# Altium schematic symbol library kmilo17pet-dsPIC33F.SchLib: 775 symbols (part 40 of 44)
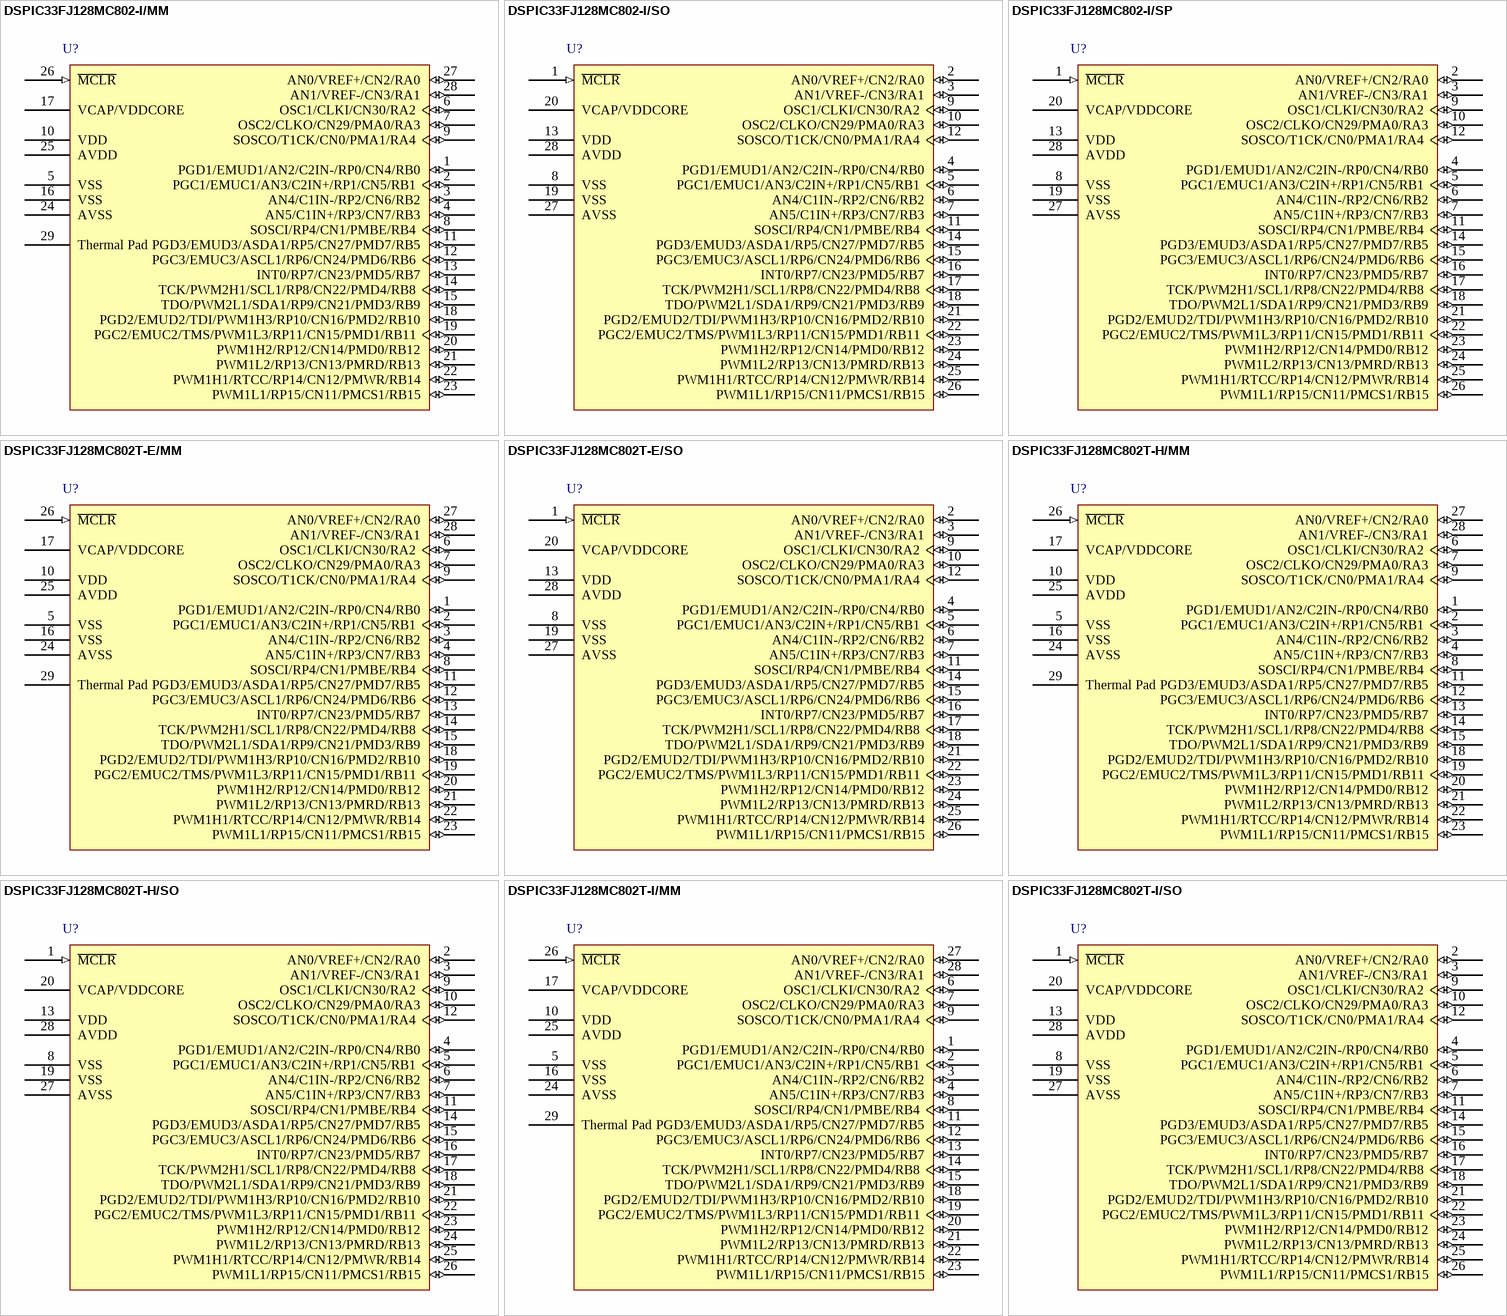
[diagram p197: symbols DSPIC33FJ128MC802-I/MM to DSPIC33FJ128MC802T-I/SO]

## DSPIC33FJ128MC802T-I/SO
designator U?
High-Performance 16-bit Digital Signal Controller, 128 KB Flash, 16 KB RAM, 28-Pin SOIC, Industrial Temperature, Tape and Reel; Manufacturer: Microchip; PartNumber: DSPIC33FJ128MC802T-I/SO; DatasheetVersion: revD, Nov-2009; PackageVersion: revBB, Aug-2009; PackageReference: SOIC-SO28; PackageDescription: 28-Lead Plastic Small Outline (SO) - Wide 7.50mm Body [SOIC]; Supplier 1: Digi-Key; Supplier Part Number 1: DSPIC33FJ128MC802T-I/SOTR-ND; Supplier 2: Mouser; Supplier Part Number 2: 579-DSPIC28MC802TISO; Mounting Technology: Surface Mount; Code_JEDEC: MS-013; ComponentLink1Description: Manufacturer URL; ComponentLink1URL: http://www.microchip.com/; ComponentLink2Description: Datasheet; ComponentLink2URL: http://ww1.microchip.com/downloads/en/DeviceDoc/70291D.pdf; ComponentLink3Description: Package Specification; ComponentLink3URL: http://www.microchip.com/stellent/groups/techpub_sg/documents/packagingspec/en012702.pdf
footprint SOIC-SO28_N (SOIC, 28-Leads, Body 17.9x7.5mm, Pitch 1.27mm, IPC Medium Density)
footprint SOIC-SO28_L (SOIC, 28-Leads, Body 17.9x7.5mm, Pitch 1.27mm, IPC High Density)
footprint SOIC-SO28_M (SOIC, 28-Leads, Body 17.9x7.5mm, Pitch 1.27mm, IPC Low Density)
pins: 1 ~{MCLR} (in), 2 AN0/VREF+/CN2/RA0 (io), 3 AN1/VREF-/CN3/RA1 (io), 4 PGD1/EMUD1/AN2/C2IN-/RP0/CN4/RB0 (io), 5 PGC1/EMUC1/AN3/C2IN+/RP1/CN5/RB1 (io), 6 AN4/C1IN-/RP2/CN6/RB2 (io), 7 AN5/C1IN+/RP3/CN7/RB3 (io), 8 VSS (power), 9 OSC1/CLKI/CN30/RA2 (io), 10 OSC2/CLKO/CN29/PMA0/RA3 (io), 11 SOSCI/RP4/CN1/PMBE/RB4 (io), 12 SOSCO/T1CK/CN0/PMA1/RA4 (io), 13 VDD (power), 14 PGD3/EMUD3/ASDA1/RP5/CN27/PMD7/RB5 (io), 15 PGC3/EMUC3/ASCL1/RP6/CN24/PMD6/RB6 (io), 16 INT0/RP7/CN23/PMD5/RB7 (io), 17 TCK/PWM2H1/SCL1/RP8/CN22/PMD4/RB8 (io), 18 TDO/PWM2L1/SDA1/RP9/CN21/PMD3/RB9 (io), 19 VSS (power), 20 VCAP/VDDCORE (power), 21 PGD2/EMUD2/TDI/PWM1H3/RP10/CN16/PMD2/RB10 (io), 22 PGC2/EMUC2/TMS/PWM1L3/RP11/CN15/PMD1/RB11 (io), 23 PWM1H2/RP12/CN14/PMD0/RB12 (io), 24 PWM1L2/RP13/CN13/PMRD/RB13 (io), 25 PWM1H1/RTCC/RP14/CN12/PMWR/RB14 (io), 26 PWM1L1/RP15/CN11/PMCS1/RB15 (io), 27 AVSS (power), 28 AVDD (power)

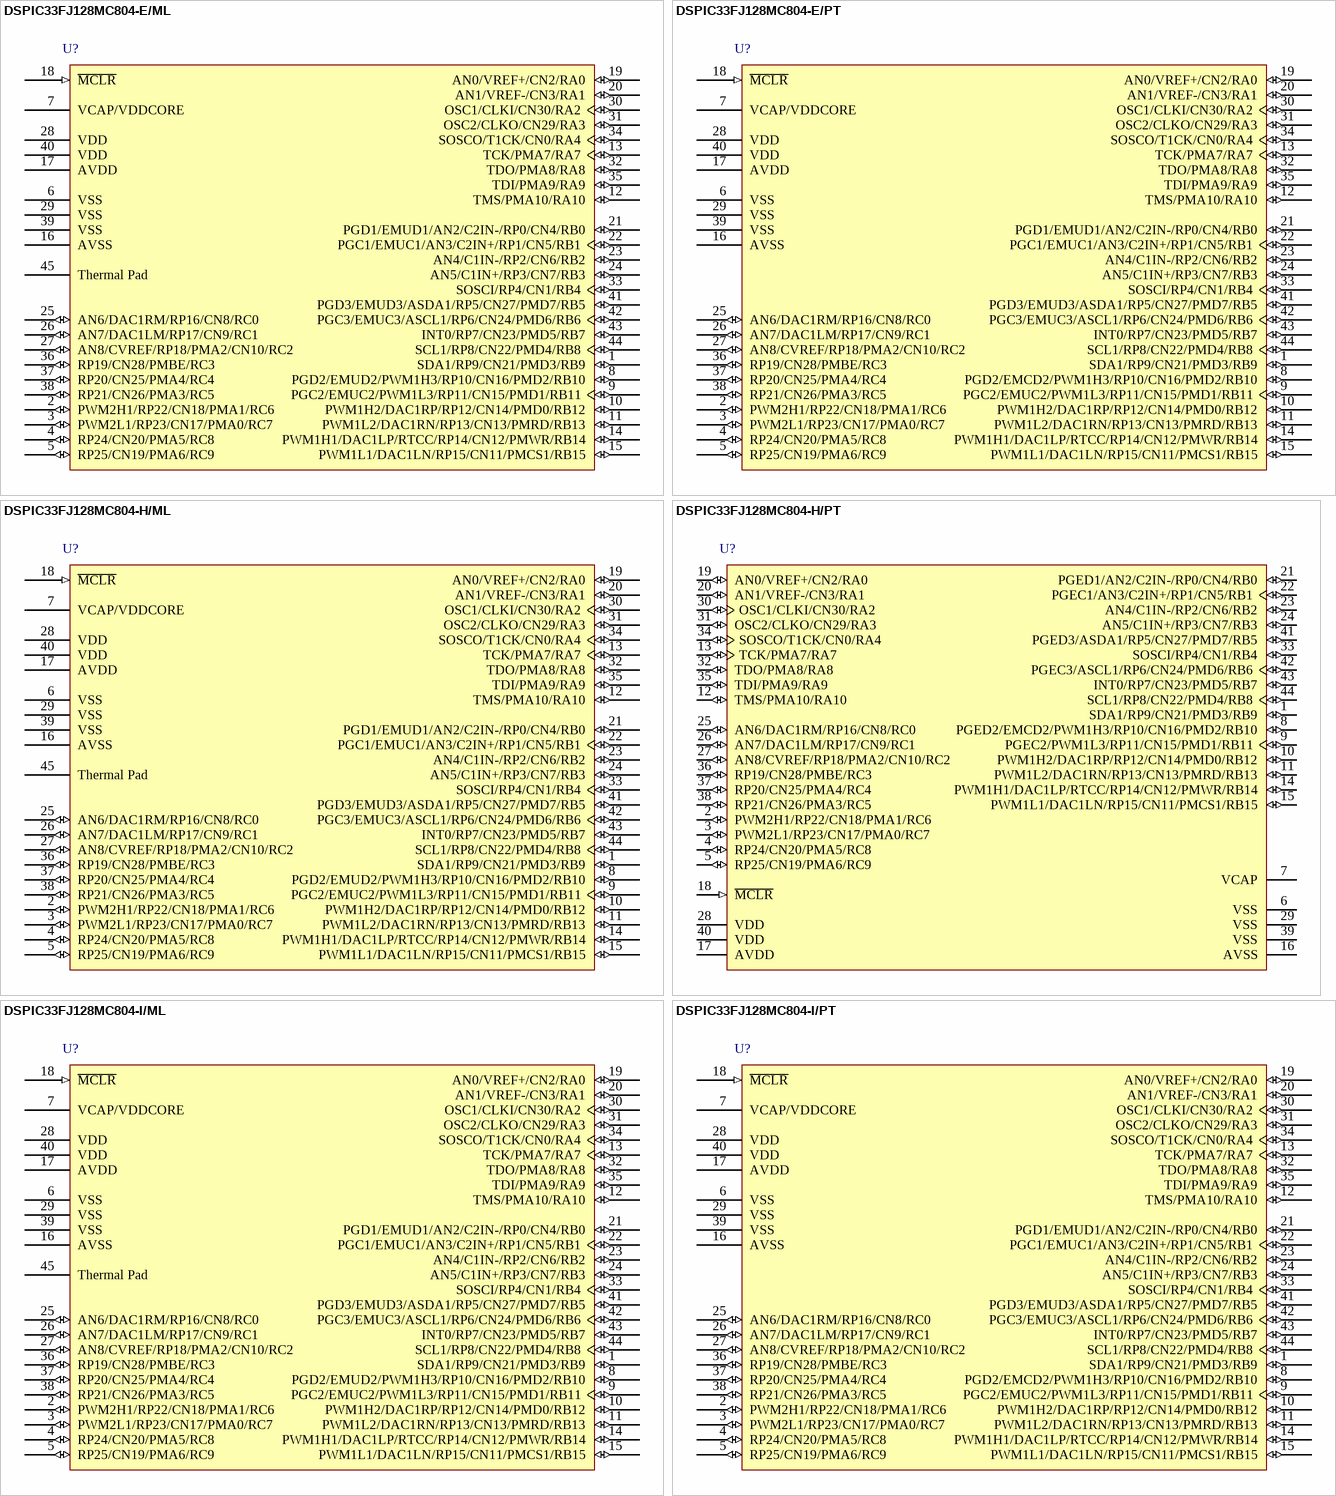
[diagram p141: symbols DSPIC33FJ128MC804-E/ML to DSPIC33FJ128MC804-I/PT]

## DSPIC33FJ128MC804-E/ML
designator U?
High-Performance 16-bit Digital Signal Controller, 128 KB Flash, 16 KB RAM, 44-Pin QFN, Extended High Temperature; Manufacturer: Microchip; PartNumber: DSPIC33FJ128MC804-E/ML; DatasheetVersion: revD, Nov-2009; PackageVersion: revBB, Aug-2009; PackageReference: QFN-ML44; PackageDescription: 44-Lead Plastic Quad Flat, No Lead Package (ML) - 8x8 mm Body [QFN]; Supplier 1: Digi-Key; Supplier Part Number 1: DSPIC33FJ128MC804-E/ML-ND; Supplier 2: Newark; Supplier Part Number 2: 39M8143; Supplier 3: Mouser; Supplier Part Number 3: 579-DSPIC128MC804EML; Mounting Technology: Surface Mount; Code_JEDEC: MO-220; Code_IPC: QFN65P800X800-44V2; ComponentLink1Description: Manufacturer URL; ComponentLink1URL: http://www.microchip.com/; ComponentLink2Description: Datasheet; ComponentLink2URL: http://ww1.microchip.com/downloads/en/DeviceDoc/70291D.pdf; ComponentLink3Description: Package Specification; ComponentLink3URL: http://www.microchip.com/stellent/groups/techpub_sg/documents/packagingspec/en012702.pdf
footprint QFN-ML44_N (QFN, 44-Leads, Body 8x8mm, Pitch 0.65mm, Thermal Pad 6.8x6.8mm, IPC Medium Density)
footprint QFN-ML44_L (QFN, 44-Leads, Body 8x8mm, Pitch 0.65mm, Thermal Pad 6.8x6.8mm, IPC High Density)
footprint QFN-ML44_M (QFN, 44-Leads, Body 8x8mm, Pitch 0.65mm, Thermal Pad 6.8x6.8mm, IPC Low Density)
pins: 1 SDA1/RP9/CN21/PMD3/RB9 (io), 2 PWM2H1/RP22/CN18/PMA1/RC6 (io), 3 PWM2L1/RP23/CN17/PMA0/RC7 (io), 4 RP24/CN20/PMA5/RC8 (io), 5 RP25/CN19/PMA6/RC9 (io), 6 VSS (power), 7 VCAP/VDDCORE (power), 8 PGD2/EMUD2/PWM1H3/RP10/CN16/PMD2/RB10 (io), 9 PGC2/EMUC2/PWM1L3/RP11/CN15/PMD1/RB11 (io), 10 PWM1H2/DAC1RP/RP12/CN14/PMD0/RB12 (io), 11 PWM1L2/DAC1RN/RP13/CN13/PMRD/RB13 (io), 12 TMS/PMA10/RA10 (io), 13 TCK/PMA7/RA7 (io), 14 PWM1H1/DAC1LP/RTCC/RP14/CN12/PMWR/RB14 (io), 15 PWM1L1/DAC1LN/RP15/CN11/PMCS1/RB15 (io), 16 AVSS (power), 17 AVDD (power), 18 ~{MCLR} (in), 19 AN0/VREF+/CN2/RA0 (io), 20 AN1/VREF-/CN3/RA1 (io), 21 PGD1/EMUD1/AN2/C2IN-/RP0/CN4/RB0 (io), 22 PGC1/EMUC1/AN3/C2IN+/RP1/CN5/RB1 (io), 23 AN4/C1IN-/RP2/CN6/RB2 (io), 24 AN5/C1IN+/RP3/CN7/RB3 (io), 25 AN6/DAC1RM/RP16/CN8/RC0 (io), 26 AN7/DAC1LM/RP17/CN9/RC1 (io), 27 AN8/CVREF/RP18/PMA2/CN10/RC2 (io), 28 VDD (power), 29 VSS (power), 30 OSC1/CLKI/CN30/RA2 (io), 31 OSC2/CLKO/CN29/RA3 (io), 32 TDO/PMA8/RA8 (io), 33 SOSCI/RP4/CN1/RB4 (io), 34 SOSCO/T1CK/CN0/RA4 (io), 35 TDI/PMA9/RA9 (io), 36 RP19/CN28/PMBE/RC3 (io), 37 RP20/CN25/PMA4/RC4 (io), 38 RP21/CN26/PMA3/RC5 (io), 39 VSS (power), 40 VDD (power), 41 PGD3/EMUD3/ASDA1/RP5/CN27/PMD7/RB5 (io), 42 PGC3/EMUC3/ASCL1/RP6/CN24/PMD6/RB6 (io), 43 INT0/RP7/CN23/PMD5/RB7 (io), 44 SCL1/RP8/CN22/PMD4/RB8 (io), 45 Thermal Pad

## DSPIC33FJ128MC804-E/PT
designator U?
High-Performance 16-bit Digital Signal Controller, 128 KB Flash, 16 KB RAM, 44-Pin TQFP, Extended High Temperature; Manufacturer: Microchip; PartNumber: DSPIC33FJ128MC804-E/PT; DatasheetVersion: revD, Nov-2009; PackageVersion: revBB, Aug-2009; PackageReference: TQFP-PT44; PackageDescription: 44-Lead Plastic Thin Quad Flatpack (PT) - 10x10x1mm Body, 2.00mm [TQFP]; Supplier 1: Digi-Key; Supplier Part Number 1: DSPIC33FJ128MC804-E/PT-ND; Supplier 2: Newark; Supplier Part Number 2: 39M8144; Supplier 3: Mouser; Supplier Part Number 3: 579-DSPIC128MC804EPT; Mounting Technology: Surface Mount; Code_JEDEC: MS-026; ComponentLink1Description: Manufacturer URL; ComponentLink1URL: http://www.microchip.com/; ComponentLink2Description: Datasheet; ComponentLink2URL: http://ww1.microchip.com/downloads/en/DeviceDoc/70291D.pdf; ComponentLink3Description: Package Specification; ComponentLink3URL: http://www.microchip.com/stellent/groups/techpub_sg/documents/packagingspec/en012702.pdf
footprint TQFP-PT44_N (Thin QFP, 44-Leads, Body 10x10mm, Pitch 0.8mm, IPC Medium Density)
footprint TQFP-PT44_L (Thin QFP, 44-Leads, Body 10x10mm, Pitch 0.8mm, IPC High Density)
footprint TQFP-PT44_M (Thin QFP, 44-Leads, Body 10x10mm, Pitch 0.8mm, IPC Low Density)
pins: 1 SDA1/RP9/CN21/PMD3/RB9 (io), 2 PWM2H1/RP22/CN18/PMA1/RC6 (io), 3 PWM2L1/RP23/CN17/PMA0/RC7 (io), 4 RP24/CN20/PMA5/RC8 (io), 5 RP25/CN19/PMA6/RC9 (io), 6 VSS (power), 7 VCAP/VDDCORE (power), 8 PGD2/EMCD2/PWM1H3/RP10/CN16/PMD2/RB10 (io), 9 PGC2/EMUC2/PWM1L3/RP11/CN15/PMD1/RB11 (io), 10 PWM1H2/DAC1RP/RP12/CN14/PMD0/RB12 (io), 11 PWM1L2/DAC1RN/RP13/CN13/PMRD/RB13 (io), 12 TMS/PMA10/RA10 (io), 13 TCK/PMA7/RA7 (io), 14 PWM1H1/DAC1LP/RTCC/RP14/CN12/PMWR/RB14 (io), 15 PWM1L1/DAC1LN/RP15/CN11/PMCS1/RB15 (io), 16 AVSS (power), 17 AVDD (power), 18 ~{MCLR} (in), 19 AN0/VREF+/CN2/RA0 (io), 20 AN1/VREF-/CN3/RA1 (io), 21 PGD1/EMUD1/AN2/C2IN-/RP0/CN4/RB0 (io), 22 PGC1/EMUC1/AN3/C2IN+/RP1/CN5/RB1 (io), 23 AN4/C1IN-/RP2/CN6/RB2 (io), 24 AN5/C1IN+/RP3/CN7/RB3 (io), 25 AN6/DAC1RM/RP16/CN8/RC0 (io), 26 AN7/DAC1LM/RP17/CN9/RC1 (io), 27 AN8/CVREF/RP18/PMA2/CN10/RC2 (io), 28 VDD (power), 29 VSS (power), 30 OSC1/CLKI/CN30/RA2 (io), 31 OSC2/CLKO/CN29/RA3 (io), 32 TDO/PMA8/RA8 (io), 33 SOSCI/RP4/CN1/RB4 (io), 34 SOSCO/T1CK/CN0/RA4 (io), 35 TDI/PMA9/RA9 (io), 36 RP19/CN28/PMBE/RC3 (io), 37 RP20/CN25/PMA4/RC4 (io), 38 RP21/CN26/PMA3/RC5 (io), 39 VSS (power), 40 VDD (power), 41 PGD3/EMUD3/ASDA1/RP5/CN27/PMD7/RB5 (io), 42 PGC3/EMUC3/ASCL1/RP6/CN24/PMD6/RB6 (io), 43 INT0/RP7/CN23/PMD5/RB7 (io), 44 SCL1/RP8/CN22/PMD4/RB8 (io)

## DSPIC33FJ128MC804-H/ML
designator U?
High-Performance 16-bit Digital Signal Controller, 128 KB Flash, 16 KB RAM, 44-Pin QFN, High Temperature; Manufacturer: Microchip; PartNumber: DSPIC33FJ128MC804-H/ML; DatasheetVersion: revD, Nov-2009; PackageVersion: revBB, Aug-2009; PackageReference: QFN-ML44; PackageDescription: 44-Lead Plastic Quad Flat, No Lead Package (ML) - 8x8 mm Body [QFN]; Supplier 1: Digi-Key; Supplier Part Number 1: DSPIC33FJ128MC804-H/ML-ND; Supplier 2: Mouser; Supplier Part Number 2: 579-33FJ128MC804-HML; Mounting Technology: Surface Mount; Code_JEDEC: MO-220; Code_IPC: QFN65P800X800-44V2; ComponentLink1Description: Manufacturer URL; ComponentLink1URL: http://www.microchip.com/; ComponentLink2Description: Datasheet; ComponentLink2URL: http://ww1.microchip.com/downloads/en/DeviceDoc/70291D.pdf; ComponentLink3Description: Package Specification; ComponentLink3URL: http://www.microchip.com/stellent/groups/techpub_sg/documents/packagingspec/en012702.pdf
footprint QFN-ML44_N (QFN, 44-Leads, Body 8x8mm, Pitch 0.65mm, Thermal Pad 6.8x6.8mm, IPC Medium Density)
footprint QFN-ML44_L (QFN, 44-Leads, Body 8x8mm, Pitch 0.65mm, Thermal Pad 6.8x6.8mm, IPC High Density)
footprint QFN-ML44_M (QFN, 44-Leads, Body 8x8mm, Pitch 0.65mm, Thermal Pad 6.8x6.8mm, IPC Low Density)
pins: 1 SDA1/RP9/CN21/PMD3/RB9 (io), 2 PWM2H1/RP22/CN18/PMA1/RC6 (io), 3 PWM2L1/RP23/CN17/PMA0/RC7 (io), 4 RP24/CN20/PMA5/RC8 (io), 5 RP25/CN19/PMA6/RC9 (io), 6 VSS (power), 7 VCAP/VDDCORE (power), 8 PGD2/EMUD2/PWM1H3/RP10/CN16/PMD2/RB10 (io), 9 PGC2/EMUC2/PWM1L3/RP11/CN15/PMD1/RB11 (io), 10 PWM1H2/DAC1RP/RP12/CN14/PMD0/RB12 (io), 11 PWM1L2/DAC1RN/RP13/CN13/PMRD/RB13 (io), 12 TMS/PMA10/RA10 (io), 13 TCK/PMA7/RA7 (io), 14 PWM1H1/DAC1LP/RTCC/RP14/CN12/PMWR/RB14 (io), 15 PWM1L1/DAC1LN/RP15/CN11/PMCS1/RB15 (io), 16 AVSS (power), 17 AVDD (power), 18 ~{MCLR} (in), 19 AN0/VREF+/CN2/RA0 (io), 20 AN1/VREF-/CN3/RA1 (io), 21 PGD1/EMUD1/AN2/C2IN-/RP0/CN4/RB0 (io), 22 PGC1/EMUC1/AN3/C2IN+/RP1/CN5/RB1 (io), 23 AN4/C1IN-/RP2/CN6/RB2 (io), 24 AN5/C1IN+/RP3/CN7/RB3 (io), 25 AN6/DAC1RM/RP16/CN8/RC0 (io), 26 AN7/DAC1LM/RP17/CN9/RC1 (io), 27 AN8/CVREF/RP18/PMA2/CN10/RC2 (io), 28 VDD (power), 29 VSS (power), 30 OSC1/CLKI/CN30/RA2 (io), 31 OSC2/CLKO/CN29/RA3 (io), 32 TDO/PMA8/RA8 (io), 33 SOSCI/RP4/CN1/RB4 (io), 34 SOSCO/T1CK/CN0/RA4 (io), 35 TDI/PMA9/RA9 (io), 36 RP19/CN28/PMBE/RC3 (io), 37 RP20/CN25/PMA4/RC4 (io), 38 RP21/CN26/PMA3/RC5 (io), 39 VSS (power), 40 VDD (power), 41 PGD3/EMUD3/ASDA1/RP5/CN27/PMD7/RB5 (io), 42 PGC3/EMUC3/ASCL1/RP6/CN24/PMD6/RB6 (io), 43 INT0/RP7/CN23/PMD5/RB7 (io), 44 SCL1/RP8/CN22/PMD4/RB8 (io), 45 Thermal Pad

## DSPIC33FJ128MC804-H/PT
designator U?
16-Bit Digital Signal Controller with Motor Control PWM and Advanced Analog, 40 MIPS, 35 I/O, PMP, -40 to >125 degC, 44-pin TQFP (PT44), Tray; Manufacturer: Microchip; PartNumber: DSPIC33FJ128MC804-H/PT; DatasheetVersion: Rev. G; PackageVersion: C04-076B; PackageReference: TQFP-PT44; PackageDescription: 44-Lead Plastic Thin Quad Flatpack, 10 x 10 mm Body, 0.8 mm Pitch; Supplier 1: Digi-Key; Supplier Part Number 1: DSPIC33FJ128MC804-H/PT-ND; Supplier 2: Newark; Supplier Part Number 2: 52R9703; Supplier 3: Mouser; Supplier Part Number 3: 579-33FJ128MC804-HPT; Mounting Technology: Surface Mount; ComponentLink1Description: Manufacturer URL; ComponentLink1URL: http://www.microchip.com; ComponentLink2Description: Datasheet; ComponentLink2URL: http://ww1.microchip.com/downloads/en/DeviceDoc/70291G.pdf; ComponentLink3Description: Package Specification; ComponentLink3URL: http://www.microchip.com/stellent/groups/techpub_sg/documents/packagingspec/en012702.pdf; ComponentLink4Description: Product URL; ComponentLink4URL: http://www.microchip.com/dsPIC33FJ128MC804
footprint MCHP-TQFP-PT44_N (QFN, 44-Leads, Body 10x10mm, Pitch 0.8mm, IPC Medium Density)
footprint MCHP-TQFP-PT44_L (QFN, 44-Leads, Body 10x10mm, Pitch 0.8mm, IPC High Density)
footprint MCHP-TQFP-PT44_M (QFN, 44-Leads, Body 10x10mm, Pitch 0.8mm, IPC Low Density)
pins: 1 SDA1/RP9/CN21/PMD3/RB9 (io), 2 PWM2H1/RP22/CN18/PMA1/RC6 (io), 3 PWM2L1/RP23/CN17/PMA0/RC7 (io), 4 RP24/CN20/PMA5/RC8 (io), 5 RP25/CN19/PMA6/RC9 (io), 6 VSS (power) "Ground reference for logic and I/O pins.", 7 VCAP "CPU logic filter capacitor connection.", 8 PGED2/EMCD2/PWM1H3/RP10/CN16/PMD2/RB10 (io), 9 PGEC2/PWM1L3/RP11/CN15/PMD1/RB11 (io), 10 PWM1H2/DAC1RP/RP12/CN14/PMD0/RB12 (io), 11 PWM1L2/DAC1RN/RP13/CN13/PMRD/RB13 (io), 12 TMS/PMA10/RA10 (io), 13 TCK/PMA7/RA7 (io), 14 PWM1H1/DAC1LP/RTCC/RP14/CN12/PMWR/RB14 (io), 15 PWM1L1/DAC1LN/RP15/CN11/PMCS1/RB15 (io), 16 AVSS (power) "Ground reference for analog modules.", 17 AVDD (power) "Positive supply for analog modules. This pin must be connected at all times.", 18 ~{MCLR} (in) "Master Clear (Reset) input. This pin is an active-low Reset to the device.", 19 AN0/VREF+/CN2/RA0 (io), 20 AN1/VREF-/CN3/RA1 (io), 21 PGED1/AN2/C2IN-/RP0/CN4/RB0 (io), 22 PGEC1/AN3/C2IN+/RP1/CN5/RB1 (io), 23 AN4/C1IN-/RP2/CN6/RB2 (io), 24 AN5/C1IN+/RP3/CN7/RB3 (io), 25 AN6/DAC1RM/RP16/CN8/RC0 (io), 26 AN7/DAC1LM/RP17/CN9/RC1 (io), 27 AN8/CVREF/RP18/PMA2/CN10/RC2 (io), 28 VDD (power) "Positive supply for peripheral logic and I/O pins.", 29 VSS (power) "Ground reference for logic and I/O pins.", 30 OSC1/CLKI/CN30/RA2 (io), 31 OSC2/CLKO/CN29/RA3 (io), 32 TDO/PMA8/RA8 (io), 33 SOSCI/RP4/CN1/RB4 (io), 34 SOSCO/T1CK/CN0/RA4 (io), 35 TDI/PMA9/RA9 (io), 36 RP19/CN28/PMBE/RC3 (io), 37 RP20/CN25/PMA4/RC4 (io), 38 RP21/CN26/PMA3/RC5 (io), 39 VSS (power) "Ground reference for logic and I/O pins.", 40 VDD (power) "Positive supply for peripheral logic and I/O pins.", 41 PGED3/ASDA1/RP5/CN27/PMD7/RB5 (io), 42 PGEC3/ASCL1/RP6/CN24/PMD6/RB6 (io), 43 INT0/RP7/CN23/PMD5/RB7 (io), 44 SCL1/RP8/CN22/PMD4/RB8 (io)

## DSPIC33FJ128MC804-I/ML
designator U?
High-Performance 16-bit Digital Signal Controller, 128 KB Flash, 16 KB RAM, 44-Pin QFN, Industrial Temperature; Manufacturer: Microchip; PartNumber: DSPIC33FJ128MC804-I/ML; DatasheetVersion: revD, Nov-2009; PackageVersion: revBB, Aug-2009; PackageReference: QFN-ML44; PackageDescription: 44-Lead Plastic Quad Flat, No Lead Package (ML) - 8x8 mm Body [QFN]; Supplier 1: Digi-Key; Supplier Part Number 1: DSPIC33FJ128MC804-I/ML-ND; Supplier 2: Farnell; Supplier Part Number 2: 1576809; Supplier 3: Newark; Supplier Part Number 3: 39M8145; Supplier 4: Mouser; Supplier Part Number 4: 579-DSPIC128MC804IML; Mounting Technology: Surface Mount; Code_JEDEC: MO-220; Code_IPC: QFN65P800X800-44V2; ComponentLink1Description: Manufacturer URL; ComponentLink1URL: http://www.microchip.com/; ComponentLink2Description: Datasheet; ComponentLink2URL: http://ww1.microchip.com/downloads/en/DeviceDoc/70291D.pdf; ComponentLink3Description: Package Specification; ComponentLink3URL: http://www.microchip.com/stellent/groups/techpub_sg/documents/packagingspec/en012702.pdf
footprint QFN-ML44_N (QFN, 44-Leads, Body 8x8mm, Pitch 0.65mm, Thermal Pad 6.8x6.8mm, IPC Medium Density)
footprint QFN-ML44_L (QFN, 44-Leads, Body 8x8mm, Pitch 0.65mm, Thermal Pad 6.8x6.8mm, IPC High Density)
footprint QFN-ML44_M (QFN, 44-Leads, Body 8x8mm, Pitch 0.65mm, Thermal Pad 6.8x6.8mm, IPC Low Density)
pins: 1 SDA1/RP9/CN21/PMD3/RB9 (io), 2 PWM2H1/RP22/CN18/PMA1/RC6 (io), 3 PWM2L1/RP23/CN17/PMA0/RC7 (io), 4 RP24/CN20/PMA5/RC8 (io), 5 RP25/CN19/PMA6/RC9 (io), 6 VSS (power), 7 VCAP/VDDCORE (power), 8 PGD2/EMUD2/PWM1H3/RP10/CN16/PMD2/RB10 (io), 9 PGC2/EMUC2/PWM1L3/RP11/CN15/PMD1/RB11 (io), 10 PWM1H2/DAC1RP/RP12/CN14/PMD0/RB12 (io), 11 PWM1L2/DAC1RN/RP13/CN13/PMRD/RB13 (io), 12 TMS/PMA10/RA10 (io), 13 TCK/PMA7/RA7 (io), 14 PWM1H1/DAC1LP/RTCC/RP14/CN12/PMWR/RB14 (io), 15 PWM1L1/DAC1LN/RP15/CN11/PMCS1/RB15 (io), 16 AVSS (power), 17 AVDD (power), 18 ~{MCLR} (in), 19 AN0/VREF+/CN2/RA0 (io), 20 AN1/VREF-/CN3/RA1 (io), 21 PGD1/EMUD1/AN2/C2IN-/RP0/CN4/RB0 (io), 22 PGC1/EMUC1/AN3/C2IN+/RP1/CN5/RB1 (io), 23 AN4/C1IN-/RP2/CN6/RB2 (io), 24 AN5/C1IN+/RP3/CN7/RB3 (io), 25 AN6/DAC1RM/RP16/CN8/RC0 (io), 26 AN7/DAC1LM/RP17/CN9/RC1 (io), 27 AN8/CVREF/RP18/PMA2/CN10/RC2 (io), 28 VDD (power), 29 VSS (power), 30 OSC1/CLKI/CN30/RA2 (io), 31 OSC2/CLKO/CN29/RA3 (io), 32 TDO/PMA8/RA8 (io), 33 SOSCI/RP4/CN1/RB4 (io), 34 SOSCO/T1CK/CN0/RA4 (io), 35 TDI/PMA9/RA9 (io), 36 RP19/CN28/PMBE/RC3 (io), 37 RP20/CN25/PMA4/RC4 (io), 38 RP21/CN26/PMA3/RC5 (io), 39 VSS (power), 40 VDD (power), 41 PGD3/EMUD3/ASDA1/RP5/CN27/PMD7/RB5 (io), 42 PGC3/EMUC3/ASCL1/RP6/CN24/PMD6/RB6 (io), 43 INT0/RP7/CN23/PMD5/RB7 (io), 44 SCL1/RP8/CN22/PMD4/RB8 (io), 45 Thermal Pad

## DSPIC33FJ128MC804-I/PT
designator U?
High-Performance 16-bit Digital Signal Controller, 128 KB Flash, 16 KB RAM, 44-Pin TQFP, Industrial Temperature; Manufacturer: Microchip; PartNumber: DSPIC33FJ128MC804-I/PT; DatasheetVersion: revD, Nov-2009; PackageVersion: revBB, Aug-2009; PackageReference: TQFP-PT44; PackageDescription: 44-Lead Plastic Thin Quad Flatpack (PT) - 10x10x1mm Body, 2.00mm [TQFP]; Supplier 1: Digi-Key; Supplier Part Number 1: DSPIC33FJ128MC804-I/PT-ND; Supplier 2: Farnell; Supplier Part Number 2: 1576810MPKG; Supplier 3: Farnell; Supplier Part Number 3: 1576810; Supplier 4: Newark; Supplier Part Number 4: 39M8146; Supplier 5: Mouser; Supplier Part Number 5: 579-DSPIC128MC804IPT; Mounting Technology: Surface Mount; Code_JEDEC: MS-026; ComponentLink1Description: Manufacturer URL; ComponentLink1URL: http://www.microchip.com/; ComponentLink2Description: Datasheet; ComponentLink2URL: http://ww1.microchip.com/downloads/en/DeviceDoc/70291D.pdf; ComponentLink3Description: Package Specification; ComponentLink3URL: http://www.microchip.com/stellent/groups/techpub_sg/documents/packagingspec/en012702.pdf
footprint TQFP-PT44_N (Thin QFP, 44-Leads, Body 10x10mm, Pitch 0.8mm, IPC Medium Density)
footprint TQFP-PT44_L (Thin QFP, 44-Leads, Body 10x10mm, Pitch 0.8mm, IPC High Density)
footprint TQFP-PT44_M (Thin QFP, 44-Leads, Body 10x10mm, Pitch 0.8mm, IPC Low Density)
pins: 1 SDA1/RP9/CN21/PMD3/RB9 (io), 2 PWM2H1/RP22/CN18/PMA1/RC6 (io), 3 PWM2L1/RP23/CN17/PMA0/RC7 (io), 4 RP24/CN20/PMA5/RC8 (io), 5 RP25/CN19/PMA6/RC9 (io), 6 VSS (power), 7 VCAP/VDDCORE (power), 8 PGD2/EMCD2/PWM1H3/RP10/CN16/PMD2/RB10 (io), 9 PGC2/EMUC2/PWM1L3/RP11/CN15/PMD1/RB11 (io), 10 PWM1H2/DAC1RP/RP12/CN14/PMD0/RB12 (io), 11 PWM1L2/DAC1RN/RP13/CN13/PMRD/RB13 (io), 12 TMS/PMA10/RA10 (io), 13 TCK/PMA7/RA7 (io), 14 PWM1H1/DAC1LP/RTCC/RP14/CN12/PMWR/RB14 (io), 15 PWM1L1/DAC1LN/RP15/CN11/PMCS1/RB15 (io), 16 AVSS (power), 17 AVDD (power), 18 ~{MCLR} (in), 19 AN0/VREF+/CN2/RA0 (io), 20 AN1/VREF-/CN3/RA1 (io), 21 PGD1/EMUD1/AN2/C2IN-/RP0/CN4/RB0 (io), 22 PGC1/EMUC1/AN3/C2IN+/RP1/CN5/RB1 (io), 23 AN4/C1IN-/RP2/CN6/RB2 (io), 24 AN5/C1IN+/RP3/CN7/RB3 (io), 25 AN6/DAC1RM/RP16/CN8/RC0 (io), 26 AN7/DAC1LM/RP17/CN9/RC1 (io), 27 AN8/CVREF/RP18/PMA2/CN10/RC2 (io), 28 VDD (power), 29 VSS (power), 30 OSC1/CLKI/CN30/RA2 (io), 31 OSC2/CLKO/CN29/RA3 (io), 32 TDO/PMA8/RA8 (io), 33 SOSCI/RP4/CN1/RB4 (io), 34 SOSCO/T1CK/CN0/RA4 (io), 35 TDI/PMA9/RA9 (io), 36 RP19/CN28/PMBE/RC3 (io), 37 RP20/CN25/PMA4/RC4 (io), 38 RP21/CN26/PMA3/RC5 (io), 39 VSS (power), 40 VDD (power), 41 PGD3/EMUD3/ASDA1/RP5/CN27/PMD7/RB5 (io), 42 PGC3/EMUC3/ASCL1/RP6/CN24/PMD6/RB6 (io), 43 INT0/RP7/CN23/PMD5/RB7 (io), 44 SCL1/RP8/CN22/PMD4/RB8 (io)

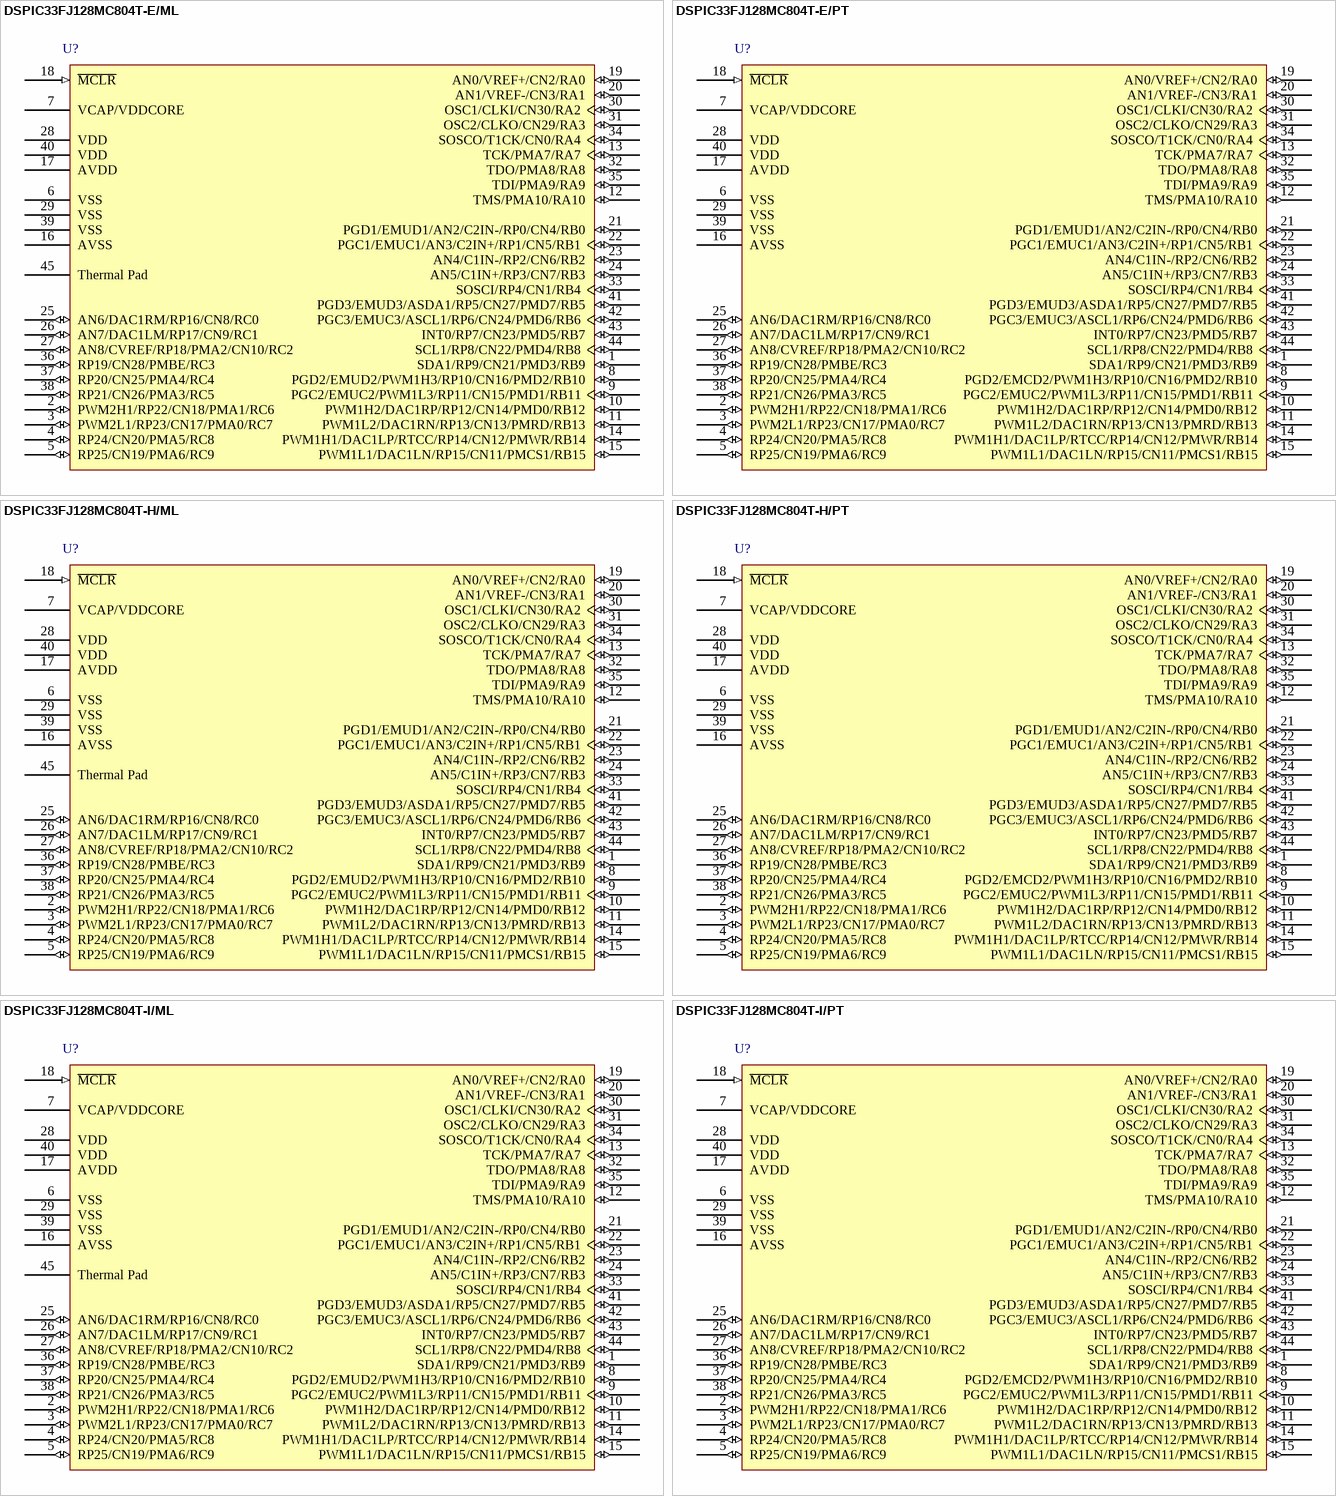
[diagram p142: symbols DSPIC33FJ128MC804T-E/ML to DSPIC33FJ128MC804T-I/PT]

## DSPIC33FJ128MC804T-E/ML
designator U?
High-Performance 16-bit Digital Signal Controller, 128 KB Flash, 16 KB RAM, 44-Pin QFN, Extended High Temperature, Tape and Reel; Manufacturer: Microchip; PartNumber: DSPIC33FJ128MC804T-E/ML; DatasheetVersion: revD, Nov-2009; PackageVersion: revBB, Aug-2009; PackageReference: QFN-ML44; PackageDescription: 44-Lead Plastic Quad Flat, No Lead Package (ML) - 8x8 mm Body [QFN]; Mounting Technology: Surface Mount; Code_JEDEC: MO-220; Code_IPC: QFN65P800X800-44V2; ComponentLink1Description: Manufacturer URL; ComponentLink1URL: http://www.microchip.com/; ComponentLink2Description: Datasheet; ComponentLink2URL: http://ww1.microchip.com/downloads/en/DeviceDoc/70291D.pdf; ComponentLink3Description: Package Specification; ComponentLink3URL: http://www.microchip.com/stellent/groups/techpub_sg/documents/packagingspec/en012702.pdf
footprint QFN-ML44_N (QFN, 44-Leads, Body 8x8mm, Pitch 0.65mm, Thermal Pad 6.8x6.8mm, IPC Medium Density)
footprint QFN-ML44_L (QFN, 44-Leads, Body 8x8mm, Pitch 0.65mm, Thermal Pad 6.8x6.8mm, IPC High Density)
footprint QFN-ML44_M (QFN, 44-Leads, Body 8x8mm, Pitch 0.65mm, Thermal Pad 6.8x6.8mm, IPC Low Density)
pins: 1 SDA1/RP9/CN21/PMD3/RB9 (io), 2 PWM2H1/RP22/CN18/PMA1/RC6 (io), 3 PWM2L1/RP23/CN17/PMA0/RC7 (io), 4 RP24/CN20/PMA5/RC8 (io), 5 RP25/CN19/PMA6/RC9 (io), 6 VSS (power), 7 VCAP/VDDCORE (power), 8 PGD2/EMUD2/PWM1H3/RP10/CN16/PMD2/RB10 (io), 9 PGC2/EMUC2/PWM1L3/RP11/CN15/PMD1/RB11 (io), 10 PWM1H2/DAC1RP/RP12/CN14/PMD0/RB12 (io), 11 PWM1L2/DAC1RN/RP13/CN13/PMRD/RB13 (io), 12 TMS/PMA10/RA10 (io), 13 TCK/PMA7/RA7 (io), 14 PWM1H1/DAC1LP/RTCC/RP14/CN12/PMWR/RB14 (io), 15 PWM1L1/DAC1LN/RP15/CN11/PMCS1/RB15 (io), 16 AVSS (power), 17 AVDD (power), 18 ~{MCLR} (in), 19 AN0/VREF+/CN2/RA0 (io), 20 AN1/VREF-/CN3/RA1 (io), 21 PGD1/EMUD1/AN2/C2IN-/RP0/CN4/RB0 (io), 22 PGC1/EMUC1/AN3/C2IN+/RP1/CN5/RB1 (io), 23 AN4/C1IN-/RP2/CN6/RB2 (io), 24 AN5/C1IN+/RP3/CN7/RB3 (io), 25 AN6/DAC1RM/RP16/CN8/RC0 (io), 26 AN7/DAC1LM/RP17/CN9/RC1 (io), 27 AN8/CVREF/RP18/PMA2/CN10/RC2 (io), 28 VDD (power), 29 VSS (power), 30 OSC1/CLKI/CN30/RA2 (io), 31 OSC2/CLKO/CN29/RA3 (io), 32 TDO/PMA8/RA8 (io), 33 SOSCI/RP4/CN1/RB4 (io), 34 SOSCO/T1CK/CN0/RA4 (io), 35 TDI/PMA9/RA9 (io), 36 RP19/CN28/PMBE/RC3 (io), 37 RP20/CN25/PMA4/RC4 (io), 38 RP21/CN26/PMA3/RC5 (io), 39 VSS (power), 40 VDD (power), 41 PGD3/EMUD3/ASDA1/RP5/CN27/PMD7/RB5 (io), 42 PGC3/EMUC3/ASCL1/RP6/CN24/PMD6/RB6 (io), 43 INT0/RP7/CN23/PMD5/RB7 (io), 44 SCL1/RP8/CN22/PMD4/RB8 (io), 45 Thermal Pad

## DSPIC33FJ128MC804T-E/PT
designator U?
High-Performance 16-bit Digital Signal Controller, 128 KB Flash, 16 KB RAM, 44-Pin TQFP, Extended High Temperature, Tape and Reel; Manufacturer: Microchip; PartNumber: DSPIC33FJ128MC804T-E/PT; DatasheetVersion: revD, Nov-2009; PackageVersion: revBB, Aug-2009; PackageReference: TQFP-PT44; PackageDescription: 44-Lead Plastic Thin Quad Flatpack (PT) - 10x10x1mm Body, 2.00mm [TQFP]; Mounting Technology: Surface Mount; Code_JEDEC: MS-026; ComponentLink1Description: Manufacturer URL; ComponentLink1URL: http://www.microchip.com/; ComponentLink2Description: Datasheet; ComponentLink2URL: http://ww1.microchip.com/downloads/en/DeviceDoc/70291D.pdf; ComponentLink3Description: Package Specification; ComponentLink3URL: http://www.microchip.com/stellent/groups/techpub_sg/documents/packagingspec/en012702.pdf
footprint TQFP-PT44_N (Thin QFP, 44-Leads, Body 10x10mm, Pitch 0.8mm, IPC Medium Density)
footprint TQFP-PT44_L (Thin QFP, 44-Leads, Body 10x10mm, Pitch 0.8mm, IPC High Density)
footprint TQFP-PT44_M (Thin QFP, 44-Leads, Body 10x10mm, Pitch 0.8mm, IPC Low Density)
pins: 1 SDA1/RP9/CN21/PMD3/RB9 (io), 2 PWM2H1/RP22/CN18/PMA1/RC6 (io), 3 PWM2L1/RP23/CN17/PMA0/RC7 (io), 4 RP24/CN20/PMA5/RC8 (io), 5 RP25/CN19/PMA6/RC9 (io), 6 VSS (power), 7 VCAP/VDDCORE (power), 8 PGD2/EMCD2/PWM1H3/RP10/CN16/PMD2/RB10 (io), 9 PGC2/EMUC2/PWM1L3/RP11/CN15/PMD1/RB11 (io), 10 PWM1H2/DAC1RP/RP12/CN14/PMD0/RB12 (io), 11 PWM1L2/DAC1RN/RP13/CN13/PMRD/RB13 (io), 12 TMS/PMA10/RA10 (io), 13 TCK/PMA7/RA7 (io), 14 PWM1H1/DAC1LP/RTCC/RP14/CN12/PMWR/RB14 (io), 15 PWM1L1/DAC1LN/RP15/CN11/PMCS1/RB15 (io), 16 AVSS (power), 17 AVDD (power), 18 ~{MCLR} (in), 19 AN0/VREF+/CN2/RA0 (io), 20 AN1/VREF-/CN3/RA1 (io), 21 PGD1/EMUD1/AN2/C2IN-/RP0/CN4/RB0 (io), 22 PGC1/EMUC1/AN3/C2IN+/RP1/CN5/RB1 (io), 23 AN4/C1IN-/RP2/CN6/RB2 (io), 24 AN5/C1IN+/RP3/CN7/RB3 (io), 25 AN6/DAC1RM/RP16/CN8/RC0 (io), 26 AN7/DAC1LM/RP17/CN9/RC1 (io), 27 AN8/CVREF/RP18/PMA2/CN10/RC2 (io), 28 VDD (power), 29 VSS (power), 30 OSC1/CLKI/CN30/RA2 (io), 31 OSC2/CLKO/CN29/RA3 (io), 32 TDO/PMA8/RA8 (io), 33 SOSCI/RP4/CN1/RB4 (io), 34 SOSCO/T1CK/CN0/RA4 (io), 35 TDI/PMA9/RA9 (io), 36 RP19/CN28/PMBE/RC3 (io), 37 RP20/CN25/PMA4/RC4 (io), 38 RP21/CN26/PMA3/RC5 (io), 39 VSS (power), 40 VDD (power), 41 PGD3/EMUD3/ASDA1/RP5/CN27/PMD7/RB5 (io), 42 PGC3/EMUC3/ASCL1/RP6/CN24/PMD6/RB6 (io), 43 INT0/RP7/CN23/PMD5/RB7 (io), 44 SCL1/RP8/CN22/PMD4/RB8 (io)

## DSPIC33FJ128MC804T-H/ML
designator U?
High-Performance 16-bit Digital Signal Controller, 128 KB Flash, 16 KB RAM, 44-Pin QFN, High Temperature , Tape and Reel; Manufacturer: Microchip; PartNumber: DSPIC33FJ128MC804T-H/ML; DatasheetVersion: revD, Nov-2009; PackageVersion: revBB, Aug-2009; PackageReference: QFN-ML44; PackageDescription: 44-Lead Plastic Quad Flat, No Lead Package (ML) - 8x8 mm Body [QFN]; Mounting Technology: Surface Mount; Code_JEDEC: MO-220; Code_IPC: QFN65P800X800-44V2; ComponentLink1Description: Manufacturer URL; ComponentLink1URL: http://www.microchip.com/; ComponentLink2Description: Datasheet; ComponentLink2URL: http://ww1.microchip.com/downloads/en/DeviceDoc/70291D.pdf; ComponentLink3Description: Package Specification; ComponentLink3URL: http://www.microchip.com/stellent/groups/techpub_sg/documents/packagingspec/en012702.pdf
footprint QFN-ML44_N (QFN, 44-Leads, Body 8x8mm, Pitch 0.65mm, Thermal Pad 6.8x6.8mm, IPC Medium Density)
footprint QFN-ML44_L (QFN, 44-Leads, Body 8x8mm, Pitch 0.65mm, Thermal Pad 6.8x6.8mm, IPC High Density)
footprint QFN-ML44_M (QFN, 44-Leads, Body 8x8mm, Pitch 0.65mm, Thermal Pad 6.8x6.8mm, IPC Low Density)
pins: 1 SDA1/RP9/CN21/PMD3/RB9 (io), 2 PWM2H1/RP22/CN18/PMA1/RC6 (io), 3 PWM2L1/RP23/CN17/PMA0/RC7 (io), 4 RP24/CN20/PMA5/RC8 (io), 5 RP25/CN19/PMA6/RC9 (io), 6 VSS (power), 7 VCAP/VDDCORE (power), 8 PGD2/EMUD2/PWM1H3/RP10/CN16/PMD2/RB10 (io), 9 PGC2/EMUC2/PWM1L3/RP11/CN15/PMD1/RB11 (io), 10 PWM1H2/DAC1RP/RP12/CN14/PMD0/RB12 (io), 11 PWM1L2/DAC1RN/RP13/CN13/PMRD/RB13 (io), 12 TMS/PMA10/RA10 (io), 13 TCK/PMA7/RA7 (io), 14 PWM1H1/DAC1LP/RTCC/RP14/CN12/PMWR/RB14 (io), 15 PWM1L1/DAC1LN/RP15/CN11/PMCS1/RB15 (io), 16 AVSS (power), 17 AVDD (power), 18 ~{MCLR} (in), 19 AN0/VREF+/CN2/RA0 (io), 20 AN1/VREF-/CN3/RA1 (io), 21 PGD1/EMUD1/AN2/C2IN-/RP0/CN4/RB0 (io), 22 PGC1/EMUC1/AN3/C2IN+/RP1/CN5/RB1 (io), 23 AN4/C1IN-/RP2/CN6/RB2 (io), 24 AN5/C1IN+/RP3/CN7/RB3 (io), 25 AN6/DAC1RM/RP16/CN8/RC0 (io), 26 AN7/DAC1LM/RP17/CN9/RC1 (io), 27 AN8/CVREF/RP18/PMA2/CN10/RC2 (io), 28 VDD (power), 29 VSS (power), 30 OSC1/CLKI/CN30/RA2 (io), 31 OSC2/CLKO/CN29/RA3 (io), 32 TDO/PMA8/RA8 (io), 33 SOSCI/RP4/CN1/RB4 (io), 34 SOSCO/T1CK/CN0/RA4 (io), 35 TDI/PMA9/RA9 (io), 36 RP19/CN28/PMBE/RC3 (io), 37 RP20/CN25/PMA4/RC4 (io), 38 RP21/CN26/PMA3/RC5 (io), 39 VSS (power), 40 VDD (power), 41 PGD3/EMUD3/ASDA1/RP5/CN27/PMD7/RB5 (io), 42 PGC3/EMUC3/ASCL1/RP6/CN24/PMD6/RB6 (io), 43 INT0/RP7/CN23/PMD5/RB7 (io), 44 SCL1/RP8/CN22/PMD4/RB8 (io), 45 Thermal Pad

## DSPIC33FJ128MC804T-H/PT
designator U?
High-Performance 16-bit Digital Signal Controller, 128 KB Flash, 16 KB RAM, 44-Pin TQFP, High Temperature , Tape and Reel; Manufacturer: Microchip; PartNumber: DSPIC33FJ128MC804T-H/PT; DatasheetVersion: revD, Nov-2009; PackageVersion: revBB, Aug-2009; PackageReference: TQFP-PT44; PackageDescription: 44-Lead Plastic Thin Quad Flatpack (PT) - 10x10x1mm Body, 2.00mm [TQFP]; Mounting Technology: Surface Mount; Code_JEDEC: MS-026; ComponentLink1Description: Manufacturer URL; ComponentLink1URL: http://www.microchip.com/; ComponentLink2Description: Datasheet; ComponentLink2URL: http://ww1.microchip.com/downloads/en/DeviceDoc/70291D.pdf; ComponentLink3Description: Package Specification; ComponentLink3URL: http://www.microchip.com/stellent/groups/techpub_sg/documents/packagingspec/en012702.pdf
footprint TQFP-PT44_N (Thin QFP, 44-Leads, Body 10x10mm, Pitch 0.8mm, IPC Medium Density)
footprint TQFP-PT44_L (Thin QFP, 44-Leads, Body 10x10mm, Pitch 0.8mm, IPC High Density)
footprint TQFP-PT44_M (Thin QFP, 44-Leads, Body 10x10mm, Pitch 0.8mm, IPC Low Density)
pins: 1 SDA1/RP9/CN21/PMD3/RB9 (io), 2 PWM2H1/RP22/CN18/PMA1/RC6 (io), 3 PWM2L1/RP23/CN17/PMA0/RC7 (io), 4 RP24/CN20/PMA5/RC8 (io), 5 RP25/CN19/PMA6/RC9 (io), 6 VSS (power), 7 VCAP/VDDCORE (power), 8 PGD2/EMCD2/PWM1H3/RP10/CN16/PMD2/RB10 (io), 9 PGC2/EMUC2/PWM1L3/RP11/CN15/PMD1/RB11 (io), 10 PWM1H2/DAC1RP/RP12/CN14/PMD0/RB12 (io), 11 PWM1L2/DAC1RN/RP13/CN13/PMRD/RB13 (io), 12 TMS/PMA10/RA10 (io), 13 TCK/PMA7/RA7 (io), 14 PWM1H1/DAC1LP/RTCC/RP14/CN12/PMWR/RB14 (io), 15 PWM1L1/DAC1LN/RP15/CN11/PMCS1/RB15 (io), 16 AVSS (power), 17 AVDD (power), 18 ~{MCLR} (in), 19 AN0/VREF+/CN2/RA0 (io), 20 AN1/VREF-/CN3/RA1 (io), 21 PGD1/EMUD1/AN2/C2IN-/RP0/CN4/RB0 (io), 22 PGC1/EMUC1/AN3/C2IN+/RP1/CN5/RB1 (io), 23 AN4/C1IN-/RP2/CN6/RB2 (io), 24 AN5/C1IN+/RP3/CN7/RB3 (io), 25 AN6/DAC1RM/RP16/CN8/RC0 (io), 26 AN7/DAC1LM/RP17/CN9/RC1 (io), 27 AN8/CVREF/RP18/PMA2/CN10/RC2 (io), 28 VDD (power), 29 VSS (power), 30 OSC1/CLKI/CN30/RA2 (io), 31 OSC2/CLKO/CN29/RA3 (io), 32 TDO/PMA8/RA8 (io), 33 SOSCI/RP4/CN1/RB4 (io), 34 SOSCO/T1CK/CN0/RA4 (io), 35 TDI/PMA9/RA9 (io), 36 RP19/CN28/PMBE/RC3 (io), 37 RP20/CN25/PMA4/RC4 (io), 38 RP21/CN26/PMA3/RC5 (io), 39 VSS (power), 40 VDD (power), 41 PGD3/EMUD3/ASDA1/RP5/CN27/PMD7/RB5 (io), 42 PGC3/EMUC3/ASCL1/RP6/CN24/PMD6/RB6 (io), 43 INT0/RP7/CN23/PMD5/RB7 (io), 44 SCL1/RP8/CN22/PMD4/RB8 (io)

## DSPIC33FJ128MC804T-I/ML
designator U?
High-Performance 16-bit Digital Signal Controller, 128 KB Flash, 16 KB RAM, 44-Pin QFN, Industrial Temperature, Tape and Reel; Manufacturer: Microchip; PartNumber: DSPIC33FJ128MC804T-I/ML; DatasheetVersion: revD, Nov-2009; PackageVersion: revBB, Aug-2009; PackageReference: QFN-ML44; PackageDescription: 44-Lead Plastic Quad Flat, No Lead Package (ML) - 8x8 mm Body [QFN]; Supplier 1: Digi-Key; Supplier Part Number 1: DSPIC33FJ128MC804T-I/MLTR-ND; Supplier 2: Mouser; Supplier Part Number 2: 579-DSPIC28MC804TIML; Mounting Technology: Surface Mount; Code_JEDEC: MO-220; Code_IPC: QFN65P800X800-44V2; ComponentLink1Description: Manufacturer URL; ComponentLink1URL: http://www.microchip.com/; ComponentLink2Description: Datasheet; ComponentLink2URL: http://ww1.microchip.com/downloads/en/DeviceDoc/70291D.pdf; ComponentLink3Description: Package Specification; ComponentLink3URL: http://www.microchip.com/stellent/groups/techpub_sg/documents/packagingspec/en012702.pdf
footprint QFN-ML44_N (QFN, 44-Leads, Body 8x8mm, Pitch 0.65mm, Thermal Pad 6.8x6.8mm, IPC Medium Density)
footprint QFN-ML44_L (QFN, 44-Leads, Body 8x8mm, Pitch 0.65mm, Thermal Pad 6.8x6.8mm, IPC High Density)
footprint QFN-ML44_M (QFN, 44-Leads, Body 8x8mm, Pitch 0.65mm, Thermal Pad 6.8x6.8mm, IPC Low Density)
pins: 1 SDA1/RP9/CN21/PMD3/RB9 (io), 2 PWM2H1/RP22/CN18/PMA1/RC6 (io), 3 PWM2L1/RP23/CN17/PMA0/RC7 (io), 4 RP24/CN20/PMA5/RC8 (io), 5 RP25/CN19/PMA6/RC9 (io), 6 VSS (power), 7 VCAP/VDDCORE (power), 8 PGD2/EMUD2/PWM1H3/RP10/CN16/PMD2/RB10 (io), 9 PGC2/EMUC2/PWM1L3/RP11/CN15/PMD1/RB11 (io), 10 PWM1H2/DAC1RP/RP12/CN14/PMD0/RB12 (io), 11 PWM1L2/DAC1RN/RP13/CN13/PMRD/RB13 (io), 12 TMS/PMA10/RA10 (io), 13 TCK/PMA7/RA7 (io), 14 PWM1H1/DAC1LP/RTCC/RP14/CN12/PMWR/RB14 (io), 15 PWM1L1/DAC1LN/RP15/CN11/PMCS1/RB15 (io), 16 AVSS (power), 17 AVDD (power), 18 ~{MCLR} (in), 19 AN0/VREF+/CN2/RA0 (io), 20 AN1/VREF-/CN3/RA1 (io), 21 PGD1/EMUD1/AN2/C2IN-/RP0/CN4/RB0 (io), 22 PGC1/EMUC1/AN3/C2IN+/RP1/CN5/RB1 (io), 23 AN4/C1IN-/RP2/CN6/RB2 (io), 24 AN5/C1IN+/RP3/CN7/RB3 (io), 25 AN6/DAC1RM/RP16/CN8/RC0 (io), 26 AN7/DAC1LM/RP17/CN9/RC1 (io), 27 AN8/CVREF/RP18/PMA2/CN10/RC2 (io), 28 VDD (power), 29 VSS (power), 30 OSC1/CLKI/CN30/RA2 (io), 31 OSC2/CLKO/CN29/RA3 (io), 32 TDO/PMA8/RA8 (io), 33 SOSCI/RP4/CN1/RB4 (io), 34 SOSCO/T1CK/CN0/RA4 (io), 35 TDI/PMA9/RA9 (io), 36 RP19/CN28/PMBE/RC3 (io), 37 RP20/CN25/PMA4/RC4 (io), 38 RP21/CN26/PMA3/RC5 (io), 39 VSS (power), 40 VDD (power), 41 PGD3/EMUD3/ASDA1/RP5/CN27/PMD7/RB5 (io), 42 PGC3/EMUC3/ASCL1/RP6/CN24/PMD6/RB6 (io), 43 INT0/RP7/CN23/PMD5/RB7 (io), 44 SCL1/RP8/CN22/PMD4/RB8 (io), 45 Thermal Pad

## DSPIC33FJ128MC804T-I/PT
designator U?
High-Performance 16-bit Digital Signal Controller, 128 KB Flash, 16 KB RAM, 44-Pin TQFP, Industrial Temperature, Tape and Reel; Manufacturer: Microchip; PartNumber: DSPIC33FJ128MC804T-I/PT; DatasheetVersion: revD, Nov-2009; PackageVersion: revBB, Aug-2009; PackageReference: TQFP-PT44; PackageDescription: 44-Lead Plastic Thin Quad Flatpack (PT) - 10x10x1mm Body, 2.00mm [TQFP]; Supplier 1: Digi-Key; Supplier Part Number 1: DSPIC33FJ128MC804T-I/PTTR-ND; Supplier 2: Mouser; Supplier Part Number 2: 579-DSPIC28MC804TIPT; Mounting Technology: Surface Mount; Code_JEDEC: MS-026; ComponentLink1Description: Manufacturer URL; ComponentLink1URL: http://www.microchip.com/; ComponentLink2Description: Datasheet; ComponentLink2URL: http://ww1.microchip.com/downloads/en/DeviceDoc/70291D.pdf; ComponentLink3Description: Package Specification; ComponentLink3URL: http://www.microchip.com/stellent/groups/techpub_sg/documents/packagingspec/en012702.pdf
footprint TQFP-PT44_N (Thin QFP, 44-Leads, Body 10x10mm, Pitch 0.8mm, IPC Medium Density)
footprint TQFP-PT44_L (Thin QFP, 44-Leads, Body 10x10mm, Pitch 0.8mm, IPC High Density)
footprint TQFP-PT44_M (Thin QFP, 44-Leads, Body 10x10mm, Pitch 0.8mm, IPC Low Density)
pins: 1 SDA1/RP9/CN21/PMD3/RB9 (io), 2 PWM2H1/RP22/CN18/PMA1/RC6 (io), 3 PWM2L1/RP23/CN17/PMA0/RC7 (io), 4 RP24/CN20/PMA5/RC8 (io), 5 RP25/CN19/PMA6/RC9 (io), 6 VSS (power), 7 VCAP/VDDCORE (power), 8 PGD2/EMCD2/PWM1H3/RP10/CN16/PMD2/RB10 (io), 9 PGC2/EMUC2/PWM1L3/RP11/CN15/PMD1/RB11 (io), 10 PWM1H2/DAC1RP/RP12/CN14/PMD0/RB12 (io), 11 PWM1L2/DAC1RN/RP13/CN13/PMRD/RB13 (io), 12 TMS/PMA10/RA10 (io), 13 TCK/PMA7/RA7 (io), 14 PWM1H1/DAC1LP/RTCC/RP14/CN12/PMWR/RB14 (io), 15 PWM1L1/DAC1LN/RP15/CN11/PMCS1/RB15 (io), 16 AVSS (power), 17 AVDD (power), 18 ~{MCLR} (in), 19 AN0/VREF+/CN2/RA0 (io), 20 AN1/VREF-/CN3/RA1 (io), 21 PGD1/EMUD1/AN2/C2IN-/RP0/CN4/RB0 (io), 22 PGC1/EMUC1/AN3/C2IN+/RP1/CN5/RB1 (io), 23 AN4/C1IN-/RP2/CN6/RB2 (io), 24 AN5/C1IN+/RP3/CN7/RB3 (io), 25 AN6/DAC1RM/RP16/CN8/RC0 (io), 26 AN7/DAC1LM/RP17/CN9/RC1 (io), 27 AN8/CVREF/RP18/PMA2/CN10/RC2 (io), 28 VDD (power), 29 VSS (power), 30 OSC1/CLKI/CN30/RA2 (io), 31 OSC2/CLKO/CN29/RA3 (io), 32 TDO/PMA8/RA8 (io), 33 SOSCI/RP4/CN1/RB4 (io), 34 SOSCO/T1CK/CN0/RA4 (io), 35 TDI/PMA9/RA9 (io), 36 RP19/CN28/PMBE/RC3 (io), 37 RP20/CN25/PMA4/RC4 (io), 38 RP21/CN26/PMA3/RC5 (io), 39 VSS (power), 40 VDD (power), 41 PGD3/EMUD3/ASDA1/RP5/CN27/PMD7/RB5 (io), 42 PGC3/EMUC3/ASCL1/RP6/CN24/PMD6/RB6 (io), 43 INT0/RP7/CN23/PMD5/RB7 (io), 44 SCL1/RP8/CN22/PMD4/RB8 (io)

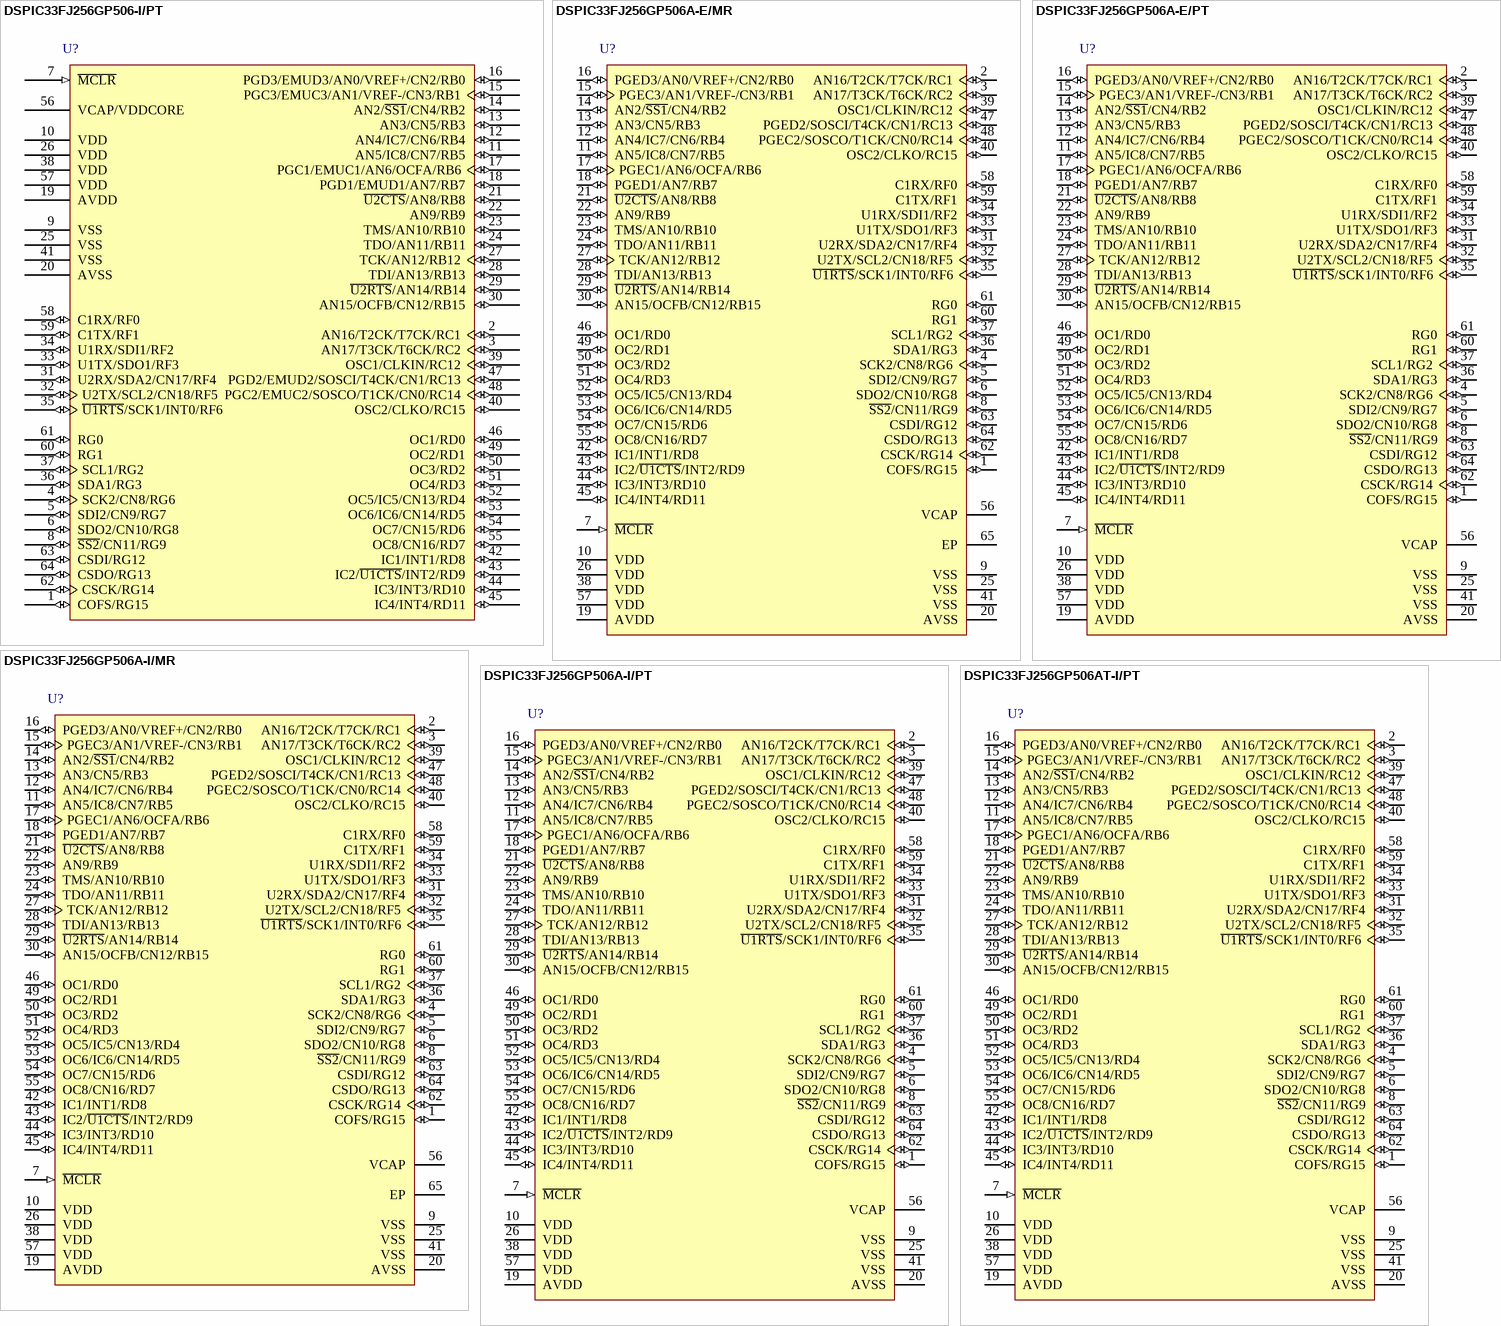
[diagram p143: symbols DSPIC33FJ256GP506-I/PT to DSPIC33FJ256GP506AT-I/PT]

## DSPIC33FJ256GP506-I/PT
designator U?
High-Performance 16-bit Digital Signal Controller, 256 KB Flash, 16 KB RAM, 64-Pin TQFP, Industrial Temperature; Manufacturer: Microchip; PartNumber: DSPIC33FJ256GP506-I/PT; DatasheetVersion: revC, Mar-2009; PackageVersion: revBB, Aug-2009; PackageReference: TQFP-PT64; PackageDescription: 64-Lead Thin Plastic Quad Flat Pack (PT) - 10x10x1mm Body, 2.00mm [TQFP]; Supplier 1: Digi-Key; Supplier Part Number 1: DSPIC33FJ256GP506-I/PT-ND; Supplier 2: Farnell; Supplier Part Number 2: 1294841; Supplier 3: Farnell; Supplier Part Number 3: 1294841MPKG; Supplier 4: Newark; Supplier Part Number 4: 56K6747; Supplier 5: Mouser; Supplier Part Number 5: 579-DS33FJ256GP506PT; Mounting Technology: Surface Mount; Code_JEDEC: MS-026; ComponentLink1Description: Manufacturer URL; ComponentLink1URL: http://www.microchip.com/; ComponentLink2Description: Datasheet; ComponentLink2URL: http://ww1.microchip.com/downloads/en/DeviceDoc/70286C.pdf; ComponentLink3Description: Package Specification; ComponentLink3URL: http://www.microchip.com/stellent/groups/techpub_sg/documents/packagingspec/en012702.pdf
footprint TQFP-PT64_N (Thin QFP, 64-Leads, Body 10x10mm, Pitch 0.5mm, IPC Medium Density)
footprint TQFP-PT64_L (Thin QFP, 64-Leads, Body 10x10mm, Pitch 0.5mm, IPC High Density)
footprint TQFP-PT64_M (Thin QFP, 64-Leads, Body 10x10mm, Pitch 0.5mm, IPC Low Density)
pins: 1 COFS/RG15 (io), 2 AN16/T2CK/T7CK/RC1 (io), 3 AN17/T3CK/T6CK/RC2 (io), 4 SCK2/CN8/RG6 (io), 5 SDI2/CN9/RG7 (io), 6 SDO2/CN10/RG8 (io), 7 ~{MCLR} (in), 8 ~{SS2}/CN11/RG9 (io), 9 VSS (power), 10 VDD (power), 11 AN5/IC8/CN7/RB5 (io), 12 AN4/IC7/CN6/RB4 (io), 13 AN3/CN5/RB3 (io), 14 AN2/~{SS1}/CN4/RB2 (io), 15 PGC3/EMUC3/AN1/VREF-/CN3/RB1 (io), 16 PGD3/EMUD3/AN0/VREF+/CN2/RB0 (io), 17 PGC1/EMUC1/AN6/OCFA/RB6 (io), 18 PGD1/EMUD1/AN7/RB7 (io), 19 AVDD (power), 20 AVSS (power), 21 ~{U2CTS}/AN8/RB8 (io), 22 AN9/RB9 (io), 23 TMS/AN10/RB10 (io), 24 TDO/AN11/RB11 (io), 25 VSS (power), 26 VDD (power), 27 TCK/AN12/RB12 (io), 28 TDI/AN13/RB13 (io), 29 ~{U2RTS}/AN14/RB14 (io), 30 AN15/OCFB/CN12/RB15 (io), 31 U2RX/SDA2/CN17/RF4 (io), 32 U2TX/SCL2/CN18/RF5 (io), 33 U1TX/SDO1/RF3 (io), 34 U1RX/SDI1/RF2 (io), 35 ~{U1RTS}/SCK1/INT0/RF6 (io), 36 SDA1/RG3 (io), 37 SCL1/RG2 (io), 38 VDD (power), 39 OSC1/CLKIN/RC12 (io), 40 OSC2/CLKO/RC15 (io), 41 VSS (power), 42 IC1/INT1/RD8 (io), 43 IC2/~{U1CTS}/INT2/RD9 (io), 44 IC3/INT3/RD10 (io), 45 IC4/INT4/RD11 (io), 46 OC1/RD0 (io), 47 PGD2/EMUD2/SOSCI/T4CK/CN1/RC13 (io), 48 PGC2/EMUC2/SOSCO/T1CK/CN0/RC14 (io), 49 OC2/RD1 (io), 50 OC3/RD2 (io), 51 OC4/RD3 (io), 52 OC5/IC5/CN13/RD4 (io), 53 OC6/IC6/CN14/RD5 (io), 54 OC7/CN15/RD6 (io), 55 OC8/CN16/RD7 (io), 56 VCAP/VDDCORE (power), 57 VDD (power), 58 C1RX/RF0 (io), 59 C1TX/RF1 (io), 60 RG1 (io), 61 RG0 (io), 62 CSCK/RG14 (io), 63 CSDI/RG12 (io), 64 CSDO/RG13 (io)

## DSPIC33FJ256GP506A-E/MR
designator U?
16-Bit Digital Signal Controller with Advanced Analog, 40 MIPS, 53 I/O, GPIO, -40 to 125 degC, 64-pin QFN (MR64), Tube; Manufacturer: Microchip; PartNumber: DSPIC33FJ256GP506A-E/MR; DatasheetVersion: Rev. D; PackageVersion: C04-154A; PackageReference: QFN-MR64; PackageDescription: 64-Lead Plastic Quad Flat, No Lead Package, 9 x 9 mm Body, 0.5 mm Pitch; Supplier 1: Digi-Key; Supplier Part Number 1: DSPIC33FJ256GP506A-E/MR-ND; Supplier 2: Mouser; Supplier Part Number 2: 579-33FJ256GP506AEMR; Mounting Technology: Surface Mount; ComponentLink1Description: Manufacturer URL; ComponentLink1URL: http://www.microchip.com; ComponentLink2Description: Datasheet; ComponentLink2URL: http://ww1.microchip.com/downloads/en/DeviceDoc/70593d.pdf; ComponentLink3Description: Package Specification; ComponentLink3URL: http://ww1.microchip.com/downloads/en/DeviceDoc/70594d.pdf; ComponentLink4Description: Product URL; ComponentLink4URL: http://www.microchip.com/dsPIC33FJ256GP506A
footprint MCHP-QFN-MR64-5400X5400TP_N (QFN, 64-Leads, Body 9x9mm, Pitch 0.5mm, Thermal Pad 5.4X5.4mm, IPC Medium Density)
footprint MCHP-QFN-MR64-5400X5400TP_L (QFN, 64-Leads, Body 9x9mm, Pitch 0.5mm, Thermal Pad 5.4X5.4mm, IPC High Density)
footprint MCHP-QFN-MR64-5400X5400TP_M (QFN, 64-Leads, Body 9x9mm, Pitch 0.5mm, Thermal Pad 5.4X5.4mm, IPC Low Density)
pins: 1 COFS/RG15 (io), 2 AN16/T2CK/T7CK/RC1 (io), 3 AN17/T3CK/T6CK/RC2 (io), 4 SCK2/CN8/RG6 (io), 5 SDI2/CN9/RG7 (io), 6 SDO2/CN10/RG8 (io), 7 ~{MCLR} (in) "Master Clear (Reset) input. This pin is an active-low Reset to the device.", 8 ~{SS2}/CN11/RG9 (io), 9 VSS (power) "Ground reference for logic and I/O pins.", 10 VDD (power) "Positive supply for peripheral logic and I/O pins.", 11 AN5/IC8/CN7/RB5 (io), 12 AN4/IC7/CN6/RB4 (io), 13 AN3/CN5/RB3 (io), 14 AN2/~{SS1}/CN4/RB2 (io), 15 PGEC3/AN1/VREF-/CN3/RB1 (io), 16 PGED3/AN0/VREF+/CN2/RB0 (io), 17 PGEC1/AN6/OCFA/RB6 (io), 18 PGED1/AN7/RB7 (io), 19 AVDD (power) "Positive supply for analog modules. This pin must be connected at all times.", 20 AVSS (power) "Ground reference for analog modules.", 21 ~{U2CTS}/AN8/RB8 (io), 22 AN9/RB9 (io), 23 TMS/AN10/RB10 (io), 24 TDO/AN11/RB11 (io), 25 VSS (power) "Ground reference for logic and I/O pins.", 26 VDD (power) "Positive supply for peripheral logic and I/O pins.", 27 TCK/AN12/RB12 (io), 28 TDI/AN13/RB13 (io), 29 ~{U2RTS}/AN14/RB14 (io), 30 AN15/OCFB/CN12/RB15 (io), 31 U2RX/SDA2/CN17/RF4 (io), 32 U2TX/SCL2/CN18/RF5 (io), 33 U1TX/SDO1/RF3 (io), 34 U1RX/SDI1/RF2 (io), 35 ~{U1RTS}/SCK1/INT0/RF6 (io), 36 SDA1/RG3 (io), 37 SCL1/RG2 (io), 38 VDD (power) "Positive supply for peripheral logic and I/O pins.", 39 OSC1/CLKIN/RC12 (io), 40 OSC2/CLKO/RC15 (io), 41 VSS (power) "Ground reference for logic and I/O pins.", 42 IC1/INT1/RD8 (io), 43 IC2/~{U1CTS}/INT2/RD9 (io), 44 IC3/INT3/RD10 (io), 45 IC4/INT4/RD11 (io), 46 OC1/RD0 (io), 47 PGED2/SOSCI/T4CK/CN1/RC13 (io), 48 PGEC2/SOSCO/T1CK/CN0/RC14 (io), 49 OC2/RD1 (io), 50 OC3/RD2 (io), 51 OC4/RD3 (io), 52 OC5/IC5/CN13/RD4 (io), 53 OC6/IC6/CN14/RD5 (io), 54 OC7/CN15/RD6 (io), 55 OC8/CN16/RD7 (io), 56 VCAP "CPU logic flter capacitor connection.", 57 VDD (power) "Positive supply for peripheral logic and I/O pins.", 58 C1RX/RF0 (io), 59 C1TX/RF1 (io), 60 RG1 (io) "PORTG is a bidirectional I/O port.", 61 RG0 (io) "PORTG is a bidirectional I/O port.", 62 CSCK/RG14 (io), 63 CSDI/RG12 (io), 64 CSDO/RG13 (io), 65 EP (power)

## DSPIC33FJ256GP506A-E/PT
designator U?
16-Bit Digital Signal Controller with Advanced Analog, 40 MIPS, 53 I/O, GPIO, -40 to 125 degC, 64-pin TQFP (PT64), Tray; Manufacturer: Microchip; PartNumber: DSPIC33FJ256GP506A-E/PT; DatasheetVersion: Rev. D; PackageVersion: C04-085B; PackageReference: TQFP-PT64; PackageDescription: 64-Lead Plastic Thin Quad FlatPack, 10 x 10 mm Body, 0.5 mm Pitch; Supplier 1: Digi-Key; Supplier Part Number 1: DSPIC33FJ256GP506A-E/PT-ND; Supplier 2: Newark; Supplier Part Number 2: 45P4644; Supplier 3: Mouser; Supplier Part Number 3: 579-FJ256GP506A-E/PT; Mounting Technology: Surface Mount; ComponentLink1Description: Manufacturer URL; ComponentLink1URL: http://www.microchip.com; ComponentLink2Description: Datasheet; ComponentLink2URL: http://ww1.microchip.com/downloads/en/DeviceDoc/70593d.pdf; ComponentLink3Description: Package Specification; ComponentLink3URL: http://www.microchip.com/stellent/groups/techpub_sg/documents/packagingspec/en012702.pdf; ComponentLink4Description: Product URL; ComponentLink4URL: http://www.microchip.com/dsPIC33FJ256GP506A
footprint MCHP-TQFP-PT64_N (TQFP, 64-Leads, Body 10x10mm, Pitch 0.5mm, IPC Medium Density)
footprint MCHP-TQFP-PT64_L (TQFP, 64-Leads, Body 10x10mm, Pitch 0.5mm, IPC High Density)
footprint MCHP-TQFP-PT64_M (TQFP, 64-Leads, Body 10x10mm, Pitch 0.5mm, IPC Low Density)
pins: 1 COFS/RG15 (io), 2 AN16/T2CK/T7CK/RC1 (io), 3 AN17/T3CK/T6CK/RC2 (io), 4 SCK2/CN8/RG6 (io), 5 SDI2/CN9/RG7 (io), 6 SDO2/CN10/RG8 (io), 7 ~{MCLR} (in) "Master Clear (Reset) input. This pin is an active-low Reset to the device.", 8 ~{SS2}/CN11/RG9 (io), 9 VSS (power) "Ground reference for logic and I/O pins.", 10 VDD (power) "Positive supply for peripheral logic and I/O pins.", 11 AN5/IC8/CN7/RB5 (io), 12 AN4/IC7/CN6/RB4 (io), 13 AN3/CN5/RB3 (io), 14 AN2/~{SS1}/CN4/RB2 (io), 15 PGEC3/AN1/VREF-/CN3/RB1 (io), 16 PGED3/AN0/VREF+/CN2/RB0 (io), 17 PGEC1/AN6/OCFA/RB6 (io), 18 PGED1/AN7/RB7 (io), 19 AVDD (power) "Positive supply for analog modules. This pin must be connected at all times.", 20 AVSS (power) "Ground reference for analog modules.", 21 ~{U2CTS}/AN8/RB8 (io), 22 AN9/RB9 (io), 23 TMS/AN10/RB10 (io), 24 TDO/AN11/RB11 (io), 25 VSS (power) "Ground reference for logic and I/O pins.", 26 VDD (power) "Positive supply for peripheral logic and I/O pins.", 27 TCK/AN12/RB12 (io), 28 TDI/AN13/RB13 (io), 29 ~{U2RTS}/AN14/RB14 (io), 30 AN15/OCFB/CN12/RB15 (io), 31 U2RX/SDA2/CN17/RF4 (io), 32 U2TX/SCL2/CN18/RF5 (io), 33 U1TX/SDO1/RF3 (io), 34 U1RX/SDI1/RF2 (io), 35 ~{U1RTS}/SCK1/INT0/RF6 (io), 36 SDA1/RG3 (io), 37 SCL1/RG2 (io), 38 VDD (power) "Positive supply for peripheral logic and I/O pins.", 39 OSC1/CLKIN/RC12 (io), 40 OSC2/CLKO/RC15 (io), 41 VSS (power) "Ground reference for logic and I/O pins.", 42 IC1/INT1/RD8 (io), 43 IC2/~{U1CTS}/INT2/RD9 (io), 44 IC3/INT3/RD10 (io), 45 IC4/INT4/RD11 (io), 46 OC1/RD0 (io), 47 PGED2/SOSCI/T4CK/CN1/RC13 (io), 48 PGEC2/SOSCO/T1CK/CN0/RC14 (io), 49 OC2/RD1 (io), 50 OC3/RD2 (io), 51 OC4/RD3 (io), 52 OC5/IC5/CN13/RD4 (io), 53 OC6/IC6/CN14/RD5 (io), 54 OC7/CN15/RD6 (io), 55 OC8/CN16/RD7 (io), 56 VCAP "CPU logic flter capacitor connection.", 57 VDD (power) "Positive supply for peripheral logic and I/O pins.", 58 C1RX/RF0 (io), 59 C1TX/RF1 (io), 60 RG1 (io) "PORTG is a bidirectional I/O port.", 61 RG0 (io) "PORTG is a bidirectional I/O port.", 62 CSCK/RG14 (io), 63 CSDI/RG12 (io), 64 CSDO/RG13 (io)

## DSPIC33FJ256GP506A-I/MR
designator U?
16-Bit Digital Signal Controller with Advanced Analog, 40 MIPS, 53 I/O, GPIO, -40 to 85 degC, 64-pin QFN (MR64), Tube; Manufacturer: Microchip; PartNumber: DSPIC33FJ256GP506A-I/MR; DatasheetVersion: Rev. D; PackageVersion: C04-154A; PackageReference: QFN-MR64; PackageDescription: 64-Lead Plastic Quad Flat, No Lead Package, 9 x 9 mm Body, 0.5 mm Pitch; Supplier 1: Digi-Key; Supplier Part Number 1: DSPIC33FJ256GP506A-I/MR-ND; Supplier 2: Newark; Supplier Part Number 2: 14R8769; Supplier 3: Mouser; Supplier Part Number 3: 579-33FJ256GP506AIMR; Mounting Technology: Surface Mount; ComponentLink1Description: Manufacturer URL; ComponentLink1URL: http://www.microchip.com; ComponentLink2Description: Datasheet; ComponentLink2URL: http://ww1.microchip.com/downloads/en/DeviceDoc/70593d.pdf; ComponentLink3Description: Package Specification; ComponentLink3URL: http://ww1.microchip.com/downloads/en/DeviceDoc/70594d.pdf; ComponentLink4Description: Product URL; ComponentLink4URL: http://www.microchip.com/dsPIC33FJ256GP506A
footprint MCHP-QFN-MR64-5400X5400TP_N (QFN, 64-Leads, Body 9x9mm, Pitch 0.5mm, Thermal Pad 5.4X5.4mm, IPC Medium Density)
footprint MCHP-QFN-MR64-5400X5400TP_L (QFN, 64-Leads, Body 9x9mm, Pitch 0.5mm, Thermal Pad 5.4X5.4mm, IPC High Density)
footprint MCHP-QFN-MR64-5400X5400TP_M (QFN, 64-Leads, Body 9x9mm, Pitch 0.5mm, Thermal Pad 5.4X5.4mm, IPC Low Density)
pins: 1 COFS/RG15 (io), 2 AN16/T2CK/T7CK/RC1 (io), 3 AN17/T3CK/T6CK/RC2 (io), 4 SCK2/CN8/RG6 (io), 5 SDI2/CN9/RG7 (io), 6 SDO2/CN10/RG8 (io), 7 ~{MCLR} (in) "Master Clear (Reset) input. This pin is an active-low Reset to the device.", 8 ~{SS2}/CN11/RG9 (io), 9 VSS (power) "Ground reference for logic and I/O pins.", 10 VDD (power) "Positive supply for peripheral logic and I/O pins.", 11 AN5/IC8/CN7/RB5 (io), 12 AN4/IC7/CN6/RB4 (io), 13 AN3/CN5/RB3 (io), 14 AN2/~{SS1}/CN4/RB2 (io), 15 PGEC3/AN1/VREF-/CN3/RB1 (io), 16 PGED3/AN0/VREF+/CN2/RB0 (io), 17 PGEC1/AN6/OCFA/RB6 (io), 18 PGED1/AN7/RB7 (io), 19 AVDD (power) "Positive supply for analog modules. This pin must be connected at all times.", 20 AVSS (power) "Ground reference for analog modules.", 21 ~{U2CTS}/AN8/RB8 (io), 22 AN9/RB9 (io), 23 TMS/AN10/RB10 (io), 24 TDO/AN11/RB11 (io), 25 VSS (power) "Ground reference for logic and I/O pins.", 26 VDD (power) "Positive supply for peripheral logic and I/O pins.", 27 TCK/AN12/RB12 (io), 28 TDI/AN13/RB13 (io), 29 ~{U2RTS}/AN14/RB14 (io), 30 AN15/OCFB/CN12/RB15 (io), 31 U2RX/SDA2/CN17/RF4 (io), 32 U2TX/SCL2/CN18/RF5 (io), 33 U1TX/SDO1/RF3 (io), 34 U1RX/SDI1/RF2 (io), 35 ~{U1RTS}/SCK1/INT0/RF6 (io), 36 SDA1/RG3 (io), 37 SCL1/RG2 (io), 38 VDD (power) "Positive supply for peripheral logic and I/O pins.", 39 OSC1/CLKIN/RC12 (io), 40 OSC2/CLKO/RC15 (io), 41 VSS (power) "Ground reference for logic and I/O pins.", 42 IC1/INT1/RD8 (io), 43 IC2/~{U1CTS}/INT2/RD9 (io), 44 IC3/INT3/RD10 (io), 45 IC4/INT4/RD11 (io), 46 OC1/RD0 (io), 47 PGED2/SOSCI/T4CK/CN1/RC13 (io), 48 PGEC2/SOSCO/T1CK/CN0/RC14 (io), 49 OC2/RD1 (io), 50 OC3/RD2 (io), 51 OC4/RD3 (io), 52 OC5/IC5/CN13/RD4 (io), 53 OC6/IC6/CN14/RD5 (io), 54 OC7/CN15/RD6 (io), 55 OC8/CN16/RD7 (io), 56 VCAP "CPU logic flter capacitor connection.", 57 VDD (power) "Positive supply for peripheral logic and I/O pins.", 58 C1RX/RF0 (io), 59 C1TX/RF1 (io), 60 RG1 (io) "PORTG is a bidirectional I/O port.", 61 RG0 (io) "PORTG is a bidirectional I/O port.", 62 CSCK/RG14 (io), 63 CSDI/RG12 (io), 64 CSDO/RG13 (io), 65 EP (power)